# Altium footprint library ch340n.PcbLib: 1 footprints
Each footprint in its own frame and in the unit in brackets; x right, y up, seen from the top. Pads: shape width x height; smd on the part's side, far side on the other; paste and mask are expansions set on the pad; w line width, h text height; cw(c..) or ccw(c..) is an arc to the next point about the centre after c.
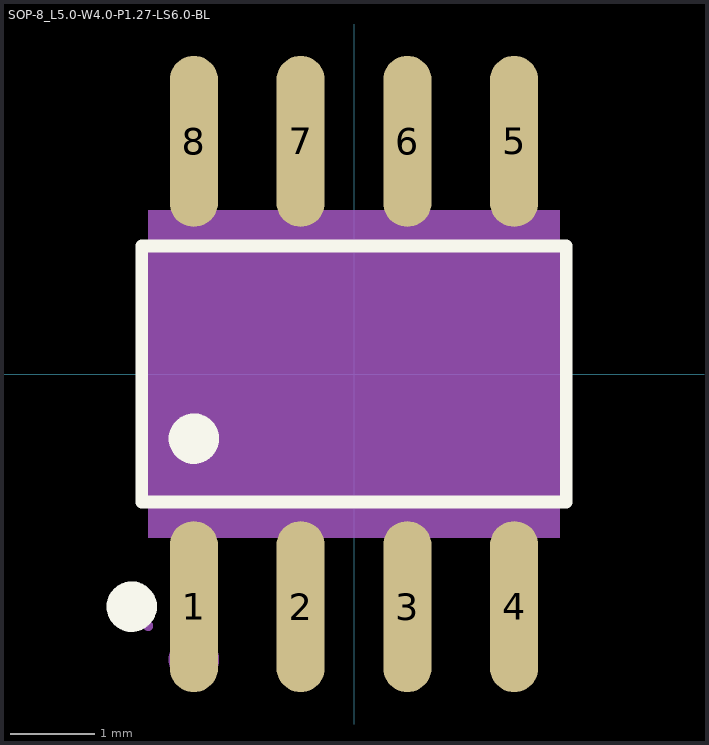
[diagram p0: the footprint, top view; thin cyan lines are the x and y axes]

## SOP-8_L5.0-W4.0-P1.27-LS6.0-BL [mil]
pads (8):
  oval 22.6x80.14 smd: 1(-75,-108.97) 2(-25,-108.97) 3(25,-108.97) 4(75,-108.97) 5(75,108.97) 6(25,108.97) 7(-25,108.97) 8(-75,108.97)
Top Overlay:
  circle w11.81: c-104.11,-108.97 r5.91
  circle w11.81: c-75,-30.28 r5.91
  lines w6: -99.46,-59.9 99.46,-59.9 99.46,59.9 -99.46,59.9 -99.46,-59.9
Mechanical 4:
  region: -96.46,-76.77 -96.46,76.77 96.46,76.77 96.46,-76.77
Mechanical 5:
  pour cut-out: 66.93,85.53 66.93,76.38 83.07,76.38 83.07,85.53
  region: 66.93,118.01 66.93,85.14 83.07,85.14 83.07,118.01
  pour cut-out: 16.93,85.53 16.93,76.38 33.07,76.38 33.07,85.53
  region: 16.93,118.01 16.93,85.14 33.07,85.14 33.07,118.01
  pour cut-out: -33.07,85.53 -33.07,76.38 -16.93,76.38 -16.93,85.53
  region: -33.07,118.01 -33.07,85.14 -16.93,85.14 -16.93,118.01
  pour cut-out: -83.07,85.53 -83.07,76.38 -66.93,76.38 -66.93,85.53
  region: -83.07,118.01 -83.07,85.14 -66.93,85.14 -66.93,118.01
  pour cut-out: 66.93,-85.53 66.93,-76.38 83.07,-76.38 83.07,-85.53
  region: 66.93,-118.01 66.93,-85.14 83.07,-85.14 83.07,-118.01
  pour cut-out: 16.93,-85.53 16.93,-76.38 33.07,-76.38 33.07,-85.53
  region: 16.93,-118.01 16.93,-85.14 33.07,-85.14 33.07,-118.01
  pour cut-out: -33.07,-85.53 -33.07,-76.38 -16.93,-76.38 -16.93,-85.53
  region: -33.07,-118.01 -33.07,-85.14 -16.93,-85.14 -16.93,-118.01
  pour cut-out: -83.07,-85.53 -83.07,-76.38 -66.93,-76.38 -66.93,-85.53
  region: -83.07,-118.01 -83.07,-85.14 -66.93,-85.14 -66.93,-118.01
Mechanical 6:
  circle w2.36: c-96.46,-118.01 r1.18
Mechanical 15:
  circle w11.81: c-75,-133.76 r5.91